# EAGLE library part CAPACITIVE-WHEEL-8 (library arducorder-mini)
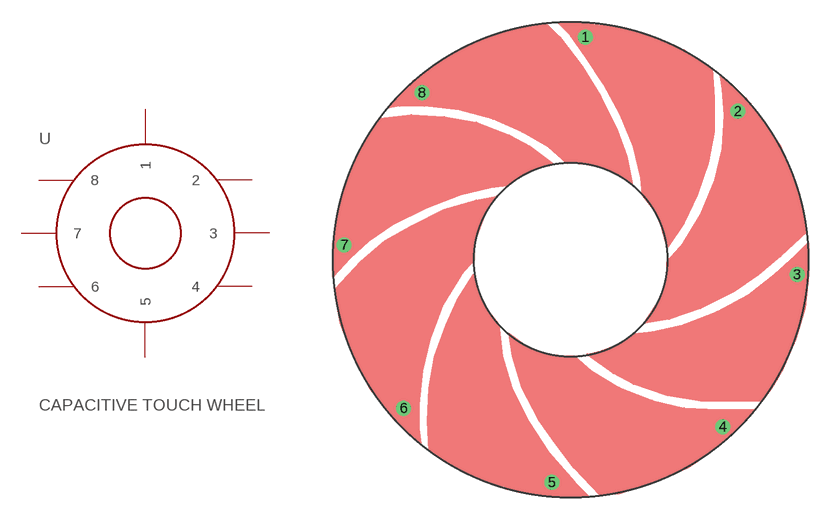
[diagram p6: symbol with the pads of CAPACITIVE-WHEEL-8; footprint CAPACITIVE-WHEEL-8]

Designator prefix -

## CAPACITIVE-WHEEL-8  [CAPACITIVE-WHEEL-8]
1  1
2  2
3  3
4  4
5  5
6  6
7  7
8  8

## Footprint CAPACITIVE-WHEEL-8 (pad centres in mm)
drill 0.5: 1 1,15; 2 11.25,10; 3 15.25,-1; 4 10.25,-11.25; 5 -1.25,-15; 6 -11.25,-10; 7 -15.25,1; 8 -10,11.25